# Altium footprint library VQFN-16_3.6x3.6x05P.PcbLib: 1 footprints
Each footprint in its own frame and in the unit in brackets; x right, y up, seen from the top. Pads: shape width x height; smd on the part's side, far side on the other; paste and mask are expansions set on the pad; w line width, h text height; cw(c..) or ccw(c..) is an arc to the next point about the centre after c.
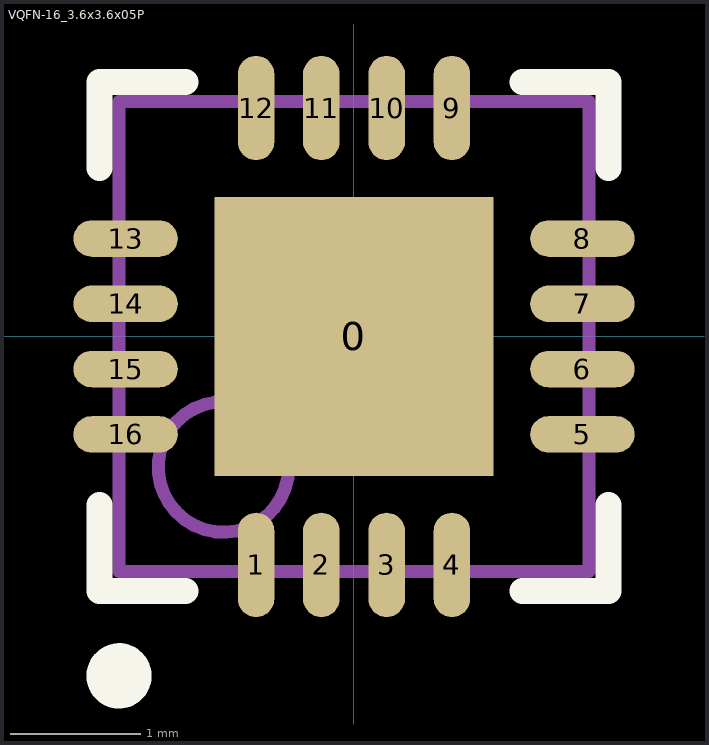
[diagram p0: the footprint, top view; thin cyan lines are the x and y axes]

## VQFN-16_3.6x3.6x05P [mm]
pads (17):
  rect 2.14x2.14 smd paste-1.07 mask+0.051: 0(0,0)
  oval 0.28x0.8 smd paste-0.025 mask+0.051: 1(-0.75,-1.75) 2(-0.25,-1.75) 3(0.25,-1.75) 4(0.75,-1.75) 9(0.75,1.75) 10(0.25,1.75) 11(-0.25,1.75) 12(-0.75,1.75)
  oval 0.8x0.28 smd paste-0.025 mask+0.051: 5(1.75,-0.75) 6(1.75,-0.25) 7(1.75,0.25) 8(1.75,0.75) 13(-1.75,0.75) 14(-1.75,0.25) 15(-1.75,-0.25) 16(-1.75,-0.75)
Top Overlay:
  circle w0.25: c-1.8,-2.6 r0.125
  lines w0.2: -1.95,-1.29 -1.95,-1.95 -1.29,-1.95 ; -1.95,1.29 -1.95,1.95 -1.29,1.95 ; 1.29,-1.95 1.95,-1.95 1.95,-1.29 ; 1.29,1.95 1.95,1.95 1.95,1.29
Top Paste:
  rectangle: 0.15,0.15 1,1
  region: -0.15,1 -1,1 -1,0.15 -0.15,0.15
  rectangle: 0.15,-1 1,-0.15
  region: -0.15,-0.15 -1,-0.15 -1,-1 -0.15,-1
Mechanical 13:
  circle w0.1: c-1,-1 r0.5
  lines w0.1: -1.8,-1.8 -1.8,1.8 1.8,1.8 1.8,-1.8 -1.8,-1.8